# Altium footprint library Transistor Footprints.PcbLib: 6 footprints
Each footprint in its own frame and in the unit in brackets; x right, y up, seen from the top. Pads: shape width x height; smd on the part's side, far side on the other; paste and mask are expansions set on the pad; w line width, h text height; cw(c..) or ccw(c..) is an arc to the next point about the centre after c.
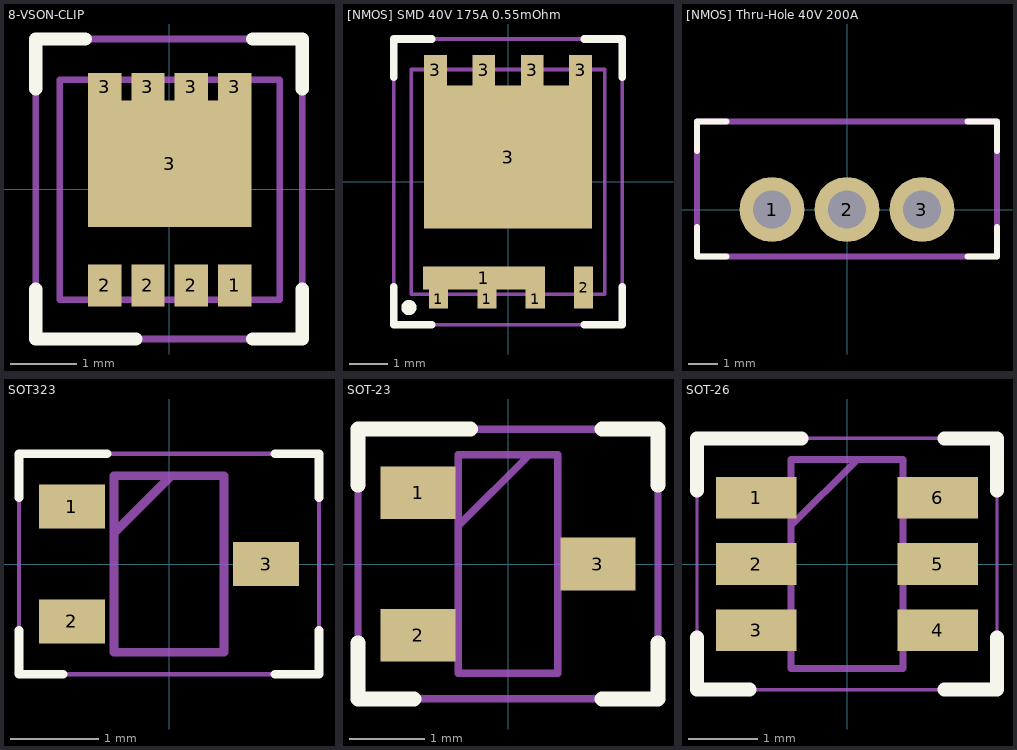
[diagram p0: the footprints below, top view; thin cyan lines are the x and y axes]

## 8-VSON-CLIP [mm]
pads (9):
  rect 0.5x0.63 smd: 1(0.985,-1.445) 2(-0.965,-1.445) 2(-0.315,-1.445) 2(0.335,-1.445)
  rect 0.5x0.41 smd: 3(-0.965,1.535) 3(-0.315,1.535) 3(0.335,1.535) 3(0.985,1.535)
  rect 2.45x1.9 smd: 3(0.01,0.38)
Top Overlay:
  lines w0.2: -2,-1.505 -2,-2.25 -0.5,-2.25 ; -2,1.505 -2,2.25 -1.255,2.25 ; 1.255,-2.25 2,-2.25 2,-1.505 ; 1.255,2.25 2,2.25 2,1.505
Physical Outline:
  lines w0.1: -1.64,-1.66 -1.64,1.64 1.66,1.64 1.66,-1.66 -1.64,-1.66
Part Border:
  lines w0.1: -2,-2.25 2,-2.25 2,2.25 -2,2.25 -2,-2.25
3D body "CSD19537Q3.stp": height 1.1, standoff 0, extent -1.65,-1.65 1.65,1.65

## [NMOS] SMD 40V 175A 0.55mOhm [mm] "IAUCN04S7N005ATMA1"
pads (10):
  rect 0.5x0.5 smd: 1(-1.825,-3.075) 1(-0.555,-3.075) 1(0.715,-3.075)
  rect 3.2x0.6 smd: 1(-0.635,-2.525)
  rect 0.5x1.1 smd: 2(1.985,-2.775)
  rect 0.6x0.8 smd: 3(-1.905,2.925) 3(-0.635,2.925) 3(0.635,2.925) 3(1.905,2.925)
  rect 4.41x3.75 smd: 3(0,0.65)
Top Layer:
  lines w0.1: -1.905,2.345 -1.905,2.925 ; -1.825,-3.075 -1.825,-2.495 ; -0.635,2.345 -0.635,2.925 ; -0.555,-3.075 -0.555,-2.495 ; 0.635,2.345 0.635,2.925 ; 0.715,-3.075 0.715,-2.495 ; 1.905,2.345 1.905,2.925
Top Overlay:
  circle w0.2: c-2.6,-3.3 r0.1
  lines w0.2: -3,-2.75 -3,-3.75 -2,-3.75 ; -3,2.75 -3,3.75 -2,3.75 ; 2,-3.75 3,-3.75 3,-2.75 ; 2,3.75 3,3.75 3,2.75
Physical Outline:
  lines w0.1: -2.538,-2.95 -2.538,2.95 2.538,2.95 2.538,-2.95 -2.538,-2.95
Part Border:
  lines w0.1: -3,-3.75 -3,3.75 3,3.75 3,-3.75 -3,-3.75
3D body "[NMOS] SMD 40V 175A 0.55mOhm.stp": height 1, standoff 0, extent -2.705,-3.22 2.705,3.22

## [NMOS] Thru-Hole 40V 200A [mm] "CSD18510KCS"
pads (3):
  round 2.2 hole 1.3: 1(-2.54,0) 2(0,0) 3(2.54,0)
Top Overlay:
  lines w0.2: -5.08,-0.59 -5.08,-1.59 -4.08,-1.59 ; -5.08,1.98 -5.08,2.98 -4.08,2.98 ; 4.08,-1.59 5.08,-1.59 5.08,-0.59 ; 4.08,2.98 5.08,2.98 5.08,1.98
Physical Outline:
  lines w0.2: -5.08,-1.59 -5.08,2.98 5.08,2.98 5.08,-1.59 -5.08,-1.59
3D body "CSD18510KCS.stp": height 19.35, standoff -9.01, extent -5.08,-1.59 5.08,2.98

## SOT323 [mm]
pads (3):
  rect 0.75x0.5 smd: 1(-1.1,0.65) 2(-1.1,-0.65) 3(1.1,0)
Top Overlay:
  lines w0.1: -1.7,-0.75 -1.7,-1.25 -1.2,-1.25 ; -1.7,0.75 -1.7,1.25 -0.7,1.25 ; 1.2,-1.25 1.7,-1.25 1.7,-0.75 ; 1.2,1.25 1.7,1.25 1.7,0.75
Physical Outline:
  lines w0.1: -0.625,0.35 0.025,1 ; -0.625,-1 0.625,-1 0.625,1 -0.625,1 -0.625,-1
Part Border:
  lines w0.05: -1.7,-1.25 1.7,-1.25 1.7,1.25 -1.7,1.25 -1.7,-1.25
3D body "BSS816NWH6327XTSA1.stp": height 1, standoff 0, extent -1.05,-1 1.05,1

## SOT-23 [mm]
pads (3):
  rect 1x0.7 smd: 1(-1.2,0.95) 2(-1.2,-0.95) 3(1.2,0)
Top Overlay:
  lines w0.2: -2,-1.05 -2,-1.8 -1.25,-1.8 ; -2,1.05 -2,1.8 -0.5,1.8 ; 1.25,-1.8 2,-1.8 2,-1.05 ; 1.25,1.8 2,1.8 2,1.05
Physical Outline:
  lines w0.1: -0.662,0.51 0.288,1.46 ; -0.662,-1.46 0.662,-1.46 0.662,1.46 -0.662,1.46 -0.662,-1.46
Part Border:
  lines w0.1: -2,-1.8 2,-1.8 2,1.8 -2,1.8 -2,-1.8
3D body "BSS138.stp": height 1.2, standoff 0, extent -1.2,-1.46 1.2,1.46

## SOT-26 [mm]
pads (6):
  rect 1.15x0.6 smd: 1(-1.3,0.95) 2(-1.3,0) 3(-1.3,-0.95) 4(1.3,-0.95) 5(1.3,0) 6(1.3,0.95)
Top Overlay:
  lines w0.2: -2.15,-1.05 -2.15,-1.8 -1.4,-1.8 ; -2.15,1.05 -2.15,1.8 -0.65,1.8 ; 1.4,-1.8 2.15,-1.8 2.15,-1.05 ; 1.4,1.8 2.15,1.8 2.15,1.05
Physical Outline:
  lines w0.1: -0.8,0.55 0.15,1.5 ; -0.8,-1.5 -0.8,1.5 0.8,1.5 0.8,-1.5 -0.8,-1.5
Part Border:
  lines w0.05: -2.15,-1.8 -2.15,1.8 2.15,1.8 2.15,-1.8 -2.15,-1.8
3D body "DMC2700UDM-7.stp": height 1.4, standoff 0, extent -1.425,-1.5 1.425,1.5